# Altium integrated library ALTIUM-WE-LQS-rev16b.IntLib: 189 symbols (part 1 of 2)
Pins are listed as number, name and electrical type; pins without a type are passive.

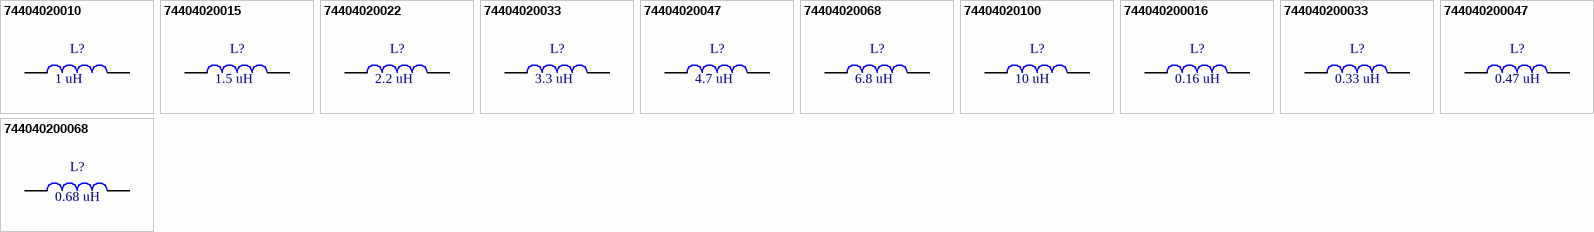
[diagram p0: symbols 74404020010 to 744040200068]

## 74404020010
designator L?  value 1 uH
WE-LQS SMD Power Inductor, size 2010, 1 uH; PartNumber: 74404020010; RatedCurrent: 1.49 A; PublishedDate: Nov. 2016; Publisher: Wurth Elektronik; ComponentLink1Description: Manufacturer; ComponentLink1URL: http://www.we-online.de; ComponentLink2Description: Datasheet; ComponentLink2URL: http://katalog.we-online.de/pbs/datasheet/74404020010.pdf; Size: 2010
footprint WE-LQS_2010
pins: 1, 2

## 74404020015
designator L?  value 1.5 uH
WE-LQS SMD Power Inductor, size 2010, 1.5 uH; PartNumber: 74404020015; RatedCurrent: 1.19 A; PublishedDate: Nov. 2016; Publisher: Wurth Elektronik; ComponentLink1Description: Manufacturer; ComponentLink1URL: http://www.we-online.de; ComponentLink2Description: Datasheet; ComponentLink2URL: http://katalog.we-online.de/pbs/datasheet/74404020015.pdf; Size: 2010
footprint WE-LQS_2010
pins: 1, 2

## 74404020022
designator L?  value 2.2 uH
WE-LQS SMD Power Inductor, size 2010, 2.2 uH; PartNumber: 74404020022; RatedCurrent: 0.96 A; PublishedDate: Nov. 2016; Publisher: Wurth Elektronik; ComponentLink1Description: Manufacturer; ComponentLink1URL: http://www.we-online.de; ComponentLink2Description: Datasheet; ComponentLink2URL: http://katalog.we-online.de/pbs/datasheet/74404020022.pdf; Size: 2010
footprint WE-LQS_2010
pins: 1, 2

## 74404020033
designator L?  value 3.3 uH
WE-LQS SMD Power Inductor, size 2010, 3.3 uH; PartNumber: 74404020033; RatedCurrent: 0.87 A; PublishedDate: Nov. 2016; Publisher: Wurth Elektronik; ComponentLink1Description: Manufacturer; ComponentLink1URL: http://www.we-online.de; ComponentLink2Description: Datasheet; ComponentLink2URL: http://katalog.we-online.de/pbs/datasheet/74404020033.pdf; Size: 2010
footprint WE-LQS_2010
pins: 1, 2

## 74404020047
designator L?  value 4.7 uH
WE-LQS SMD Power Inductor, size 2010, 4.7 uH; PartNumber: 74404020047; RatedCurrent: 0.73 A; PublishedDate: Nov. 2016; Publisher: Wurth Elektronik; ComponentLink1Description: Manufacturer; ComponentLink1URL: http://www.we-online.de; ComponentLink2Description: Datasheet; ComponentLink2URL: http://katalog.we-online.de/pbs/datasheet/74404020047.pdf; Size: 2010
footprint WE-LQS_2010
pins: 1, 2

## 74404020068
designator L?  value 6.8 uH
WE-LQS SMD Power Inductor, size 2010, 6.8 uH; PartNumber: 74404020068; RatedCurrent: 0.56 A; PublishedDate: Nov. 2016; Publisher: Wurth Elektronik; ComponentLink1Description: Manufacturer; ComponentLink1URL: http://www.we-online.de; ComponentLink2Description: Datasheet; ComponentLink2URL: http://katalog.we-online.de/pbs/datasheet/74404020068.pdf; Size: 2010
footprint WE-LQS_2010
pins: 1, 2

## 74404020100
designator L?  value 10 uH
WE-LQS SMD Power Inductor, size 2010, 10 uH; PartNumber: 74404020100; RatedCurrent: 0.5 A; PublishedDate: Nov. 2016; Publisher: Wurth Elektronik; ComponentLink1Description: Manufacturer; ComponentLink1URL: http://www.we-online.de; ComponentLink2Description: Datasheet; ComponentLink2URL: http://katalog.we-online.de/pbs/datasheet/74404020100.pdf; Size: 2010
footprint WE-LQS_2010 (SMD Power Inductor, 2-Leads, body 1.6x2.0mm)
pins: 1, 2

## 744040200016
designator L?  value 0.16 uH
WE-LQS SMD Power Inductor, size 2010, 0.16 uH; PartNumber: 744040200016; RatedCurrent: 3.07 A; PublishedDate: Nov. 2016; Publisher: Wurth Elektronik; ComponentLink1Description: Manufacturer; ComponentLink1URL: http://www.we-online.de; ComponentLink2Description: Datasheet; ComponentLink2URL: http://katalog.we-online.de/pbs/datasheet/744040200016.pdf; Size: 2010
footprint WE-LQS_2010
pins: 1, 2

## 744040200033
designator L?  value 0.33 uH
WE-LQS SMD Power Inductor, size 2010, 0.33 uH; PartNumber: 744040200033; RatedCurrent: 2.57 A; PublishedDate: Nov. 2016; Publisher: Wurth Elektronik; ComponentLink1Description: Manufacturer; ComponentLink1URL: http://www.we-online.de; ComponentLink2Description: Datasheet; ComponentLink2URL: http://katalog.we-online.de/pbs/datasheet/744040200033.pdf; Size: 2010
footprint WE-LQS_2010
pins: 1, 2

## 744040200047
designator L?  value 0.47 uH
WE-LQS SMD Power Inductor, size 2010, 0.47 uH; PartNumber: 744040200047; RatedCurrent: 2.08 A; PublishedDate: Nov. 2016; Publisher: Wurth Elektronik; ComponentLink1Description: Manufacturer; ComponentLink1URL: http://www.we-online.de; ComponentLink2Description: Datasheet; ComponentLink2URL: http://katalog.we-online.de/pbs/datasheet/744040200047.pdf; Size: 2010
footprint WE-LQS_2010
pins: 1, 2

## 744040200068
designator L?  value 0.68 uH
WE-LQS SMD Power Inductor, size 2010, 0.68 uH; PartNumber: 744040200068; RatedCurrent: 1.8 A; PublishedDate: Nov. 2016; Publisher: Wurth Elektronik; ComponentLink1Description: Manufacturer; ComponentLink1URL: http://www.we-online.de; ComponentLink2Description: Datasheet; ComponentLink2URL: http://katalog.we-online.de/pbs/datasheet/744040200068.pdf; Size: 2010
footprint WE-LQS_2010
pins: 1, 2


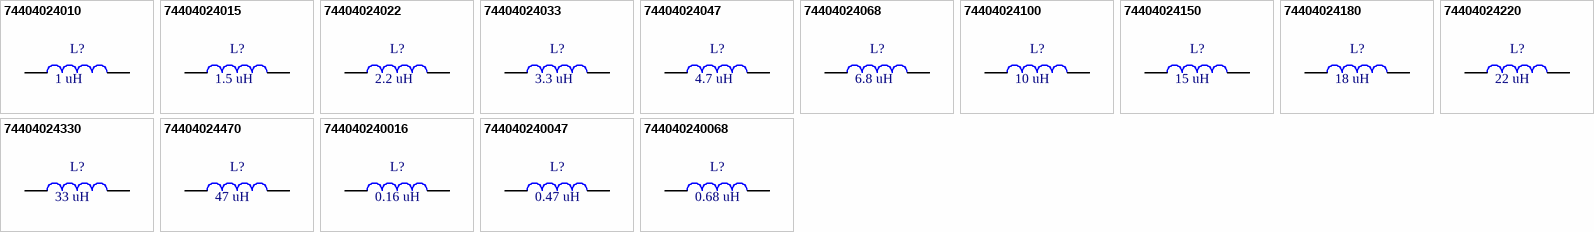
[diagram p1: symbols 74404024010 to 744040240068]

## 74404024010
designator L?  value 1 uH
WE-LQS SMD Power Inductor, size 2512, 1 uH; PartNumber: 74404024010; RatedCurrent: 2.2 A; PublishedDate: Nov. 2016; Publisher: Wurth Elektronik; ComponentLink1Description: Manufacturer; ComponentLink1URL: http://www.we-online.de; ComponentLink2Description: Datasheet; ComponentLink2URL: http://katalog.we-online.de/pbs/datasheet/74404024010.pdf; Size: 2512
footprint WE-LQS_2512
pins: 1, 2

## 74404024015
designator L?  value 1.5 uH
WE-LQS SMD Power Inductor, size 2512, 1.5 uH; PartNumber: 74404024015; RatedCurrent: 1.9 A; PublishedDate: Nov. 2016; Publisher: Wurth Elektronik; ComponentLink1Description: Manufacturer; ComponentLink1URL: http://www.we-online.de; ComponentLink2Description: Datasheet; ComponentLink2URL: http://katalog.we-online.de/pbs/datasheet/74404024015.pdf; Size: 2512
footprint WE-LQS_2512
pins: 1, 2

## 74404024022
designator L?  value 2.2 uH
WE-LQS SMD Power Inductor, size 2512, 2.2 uH; PartNumber: 74404024022; RatedCurrent: 1.8 A; PublishedDate: Nov. 2016; Publisher: Wurth Elektronik; ComponentLink1Description: Manufacturer; ComponentLink1URL: http://www.we-online.de; ComponentLink2Description: Datasheet; ComponentLink2URL: http://katalog.we-online.de/pbs/datasheet/74404024022.pdf; Size: 2512
footprint WE-LQS_2512
pins: 1, 2

## 74404024033
designator L?  value 3.3 uH
WE-LQS SMD Power Inductor, size 2512, 3.3 uH; PartNumber: 74404024033; RatedCurrent: 1.4 A; PublishedDate: Nov. 2016; Publisher: Wurth Elektronik; ComponentLink1Description: Manufacturer; ComponentLink1URL: http://www.we-online.de; ComponentLink2Description: Datasheet; ComponentLink2URL: http://katalog.we-online.de/pbs/datasheet/74404024033.pdf; Size: 2512
footprint WE-LQS_2512
pins: 1, 2

## 74404024047
designator L?  value 4.7 uH
WE-LQS SMD Power Inductor, size 2512, 4.7 uH; PartNumber: 74404024047; RatedCurrent: 1.12 A; PublishedDate: Nov. 2016; Publisher: Wurth Elektronik; ComponentLink1Description: Manufacturer; ComponentLink1URL: http://www.we-online.de; ComponentLink2Description: Datasheet; ComponentLink2URL: http://katalog.we-online.de/pbs/datasheet/74404024047.pdf; Size: 2512
footprint WE-LQS_2512
pins: 1, 2

## 74404024068
designator L?  value 6.8 uH
WE-LQS SMD Power Inductor, size 2512, 6.8 uH; PartNumber: 74404024068; RatedCurrent: 0.85 A; PublishedDate: Nov. 2016; Publisher: Wurth Elektronik; ComponentLink1Description: Manufacturer; ComponentLink1URL: http://www.we-online.de; ComponentLink2Description: Datasheet; ComponentLink2URL: http://katalog.we-online.de/pbs/datasheet/74404024068.pdf; Size: 2512
footprint WE-LQS_2512
pins: 1, 2

## 74404024100
designator L?  value 10 uH
WE-LQS SMD Power Inductor, size 2512, 10 uH; PartNumber: 74404024100; RatedCurrent: 0.65 A; PublishedDate: Nov. 2016; Publisher: Wurth Elektronik; ComponentLink1Description: Manufacturer; ComponentLink1URL: http://www.we-online.de; ComponentLink2Description: Datasheet; ComponentLink2URL: http://katalog.we-online.de/pbs/datasheet/74404024100.pdf; Size: 2512
footprint WE-LQS_2512
pins: 1, 2

## 74404024150
designator L?  value 15 uH
WE-LQS SMD Power Inductor, size 2512, 15 uH; PartNumber: 74404024150; RatedCurrent: 0.47 A; PublishedDate: Nov. 2016; Publisher: Wurth Elektronik; ComponentLink1Description: Manufacturer; ComponentLink1URL: http://www.we-online.de; ComponentLink2Description: Datasheet; ComponentLink2URL: http://katalog.we-online.de/pbs/datasheet/74404024150.pdf; Size: 2512
footprint WE-LQS_2512
pins: 1, 2

## 74404024180
designator L?  value 18 uH
WE-LQS SMD Power Inductor, size 2512, 18 uH; PartNumber: 74404024180; RatedCurrent: 0.46 A; PublishedDate: Nov. 2016; Publisher: Wurth Elektronik; ComponentLink1Description: Manufacturer; ComponentLink1URL: http://www.we-online.de; ComponentLink2Description: Datasheet; ComponentLink2URL: http://katalog.we-online.de/pbs/datasheet/74404024180.pdf; Size: 2512
footprint WE-LQS_2512
pins: 1, 2

## 74404024220
designator L?  value 22 uH
WE-LQS SMD Power Inductor, size 2512, 22 uH; PartNumber: 74404024220; RatedCurrent: 0.45 A; PublishedDate: Nov. 2016; Publisher: Wurth Elektronik; ComponentLink1Description: Manufacturer; ComponentLink1URL: http://www.we-online.de; ComponentLink2Description: Datasheet; ComponentLink2URL: http://katalog.we-online.de/pbs/datasheet/74404024220.pdf; Size: 2512
footprint WE-LQS_2512
pins: 1, 2

## 74404024330
designator L?  value 33 uH
WE-LQS SMD Power Inductor, size 2512, 33 uH; PartNumber: 74404024330; RatedCurrent: 0.44 A; PublishedDate: Nov. 2016; Publisher: Wurth Elektronik; ComponentLink1Description: Manufacturer; ComponentLink1URL: http://www.we-online.de; ComponentLink2Description: Datasheet; ComponentLink2URL: http://katalog.we-online.de/pbs/datasheet/74404024330.pdf; Size: 2512
footprint WE-LQS_2512
pins: 1, 2

## 74404024470
designator L?  value 47 uH
WE-LQS SMD Power Inductor, size 2512, 47 uH; PartNumber: 74404024470; RatedCurrent: 0.33 A; PublishedDate: Nov. 2016; Publisher: Wurth Elektronik; ComponentLink1Description: Manufacturer; ComponentLink1URL: http://www.we-online.de; ComponentLink2Description: Datasheet; ComponentLink2URL: http://katalog.we-online.de/pbs/datasheet/74404024470.pdf; Size: 2512
footprint WE-LQS_2512
pins: 1, 2

## 744040240016
designator L?  value 0.16 uH
WE-LQS SMD Power Inductor, size 2512, 0.16 uH; PartNumber: 744040240016; RatedCurrent: 3.7 A; PublishedDate: Nov. 2016; Publisher: Wurth Elektronik; ComponentLink1Description: Manufacturer; ComponentLink1URL: http://www.we-online.de; ComponentLink2Description: Datasheet; ComponentLink2URL: http://katalog.we-online.de/pbs/datasheet/744040240016.pdf; Size: 2512
footprint WE-LQS_2512
pins: 1, 2

## 744040240047
designator L?  value 0.47 uH
WE-LQS SMD Power Inductor, size 2512, 0.47 uH; PartNumber: 744040240047; RatedCurrent: 2.6 A; PublishedDate: Nov. 2016; Publisher: Wurth Elektronik; ComponentLink1Description: Manufacturer; ComponentLink1URL: http://www.we-online.de; ComponentLink2Description: Datasheet; ComponentLink2URL: http://katalog.we-online.de/pbs/datasheet/744040240047.pdf; Size: 2512
footprint WE-LQS_2512
pins: 1, 2

## 744040240068
designator L?  value 0.68 uH
WE-LQS SMD Power Inductor, size 2512, 0.68 uH; PartNumber: 744040240068; RatedCurrent: 2.5 A; PublishedDate: Nov. 2016; Publisher: Wurth Elektronik; ComponentLink1Description: Manufacturer; ComponentLink1URL: http://www.we-online.de; ComponentLink2Description: Datasheet; ComponentLink2URL: http://katalog.we-online.de/pbs/datasheet/744040240068.pdf; Size: 2512
footprint WE-LQS_2512
pins: 1, 2


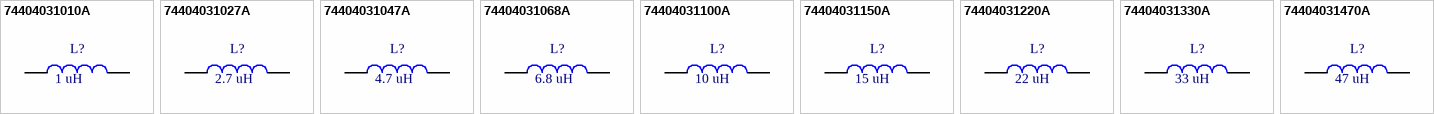
[diagram p2: symbols 74404031010A to 74404031470A]

## 74404031010A
designator L?  value 1 uH
WE-LQS SMD Power Inductor, size 3012, 1 uH; PartNumber: 74404031010A; RatedCurrent: 2.94 A; PublishedDate: Nov. 2016; Publisher: Wurth Elektronik; ComponentLink1Description: Manufacturer; ComponentLink1URL: http://www.we-online.de; ComponentLink2Description: Datasheet; ComponentLink2URL: http://katalog.we-online.de/pbs/datasheet/74404031010A.pdf; Size: 3012
footprint WE-LQS_3012
pins: 1, 2

## 74404031027A
designator L?  value 2.7 uH
WE-LQS SMD Power Inductor, size 3012, 2.7 uH; PartNumber: 74404031027A; RatedCurrent: 1.85 A; PublishedDate: Nov. 2016; Publisher: Wurth Elektronik; ComponentLink1Description: Manufacturer; ComponentLink1URL: http://www.we-online.de; ComponentLink2Description: Datasheet; ComponentLink2URL: http://katalog.we-online.de/pbs/datasheet/74404031027A.pdf; Size: 3012
footprint WE-LQS_3012
pins: 1, 2

## 74404031047A
designator L?  value 4.7 uH
WE-LQS SMD Power Inductor, size 3012, 4.7 uH; PartNumber: 74404031047A; RatedCurrent: 1.4 A; PublishedDate: Nov. 2016; Publisher: Wurth Elektronik; ComponentLink1Description: Manufacturer; ComponentLink1URL: http://www.we-online.de; ComponentLink2Description: Datasheet; ComponentLink2URL: http://katalog.we-online.de/pbs/datasheet/74404031047A.pdf; Size: 3012
footprint WE-LQS_3012
pins: 1, 2

## 74404031068A
designator L?  value 6.8 uH
WE-LQS SMD Power Inductor, size 3012, 6.8 uH; PartNumber: 74404031068A; RatedCurrent: 1.29 A; PublishedDate: Nov. 2016; Publisher: Wurth Elektronik; ComponentLink1Description: Manufacturer; ComponentLink1URL: http://www.we-online.de; ComponentLink2Description: Datasheet; ComponentLink2URL: http://katalog.we-online.de/pbs/datasheet/74404031068A.pdf; Size: 3012
footprint WE-LQS_3012
pins: 1, 2

## 74404031100A
designator L?  value 10 uH
WE-LQS SMD Power Inductor, size 3012, 10 uH; PartNumber: 74404031100A; RatedCurrent: 1.03 A; PublishedDate: Nov. 2016; Publisher: Wurth Elektronik; ComponentLink1Description: Manufacturer; ComponentLink1URL: http://www.we-online.de; ComponentLink2Description: Datasheet; ComponentLink2URL: http://katalog.we-online.de/pbs/datasheet/74404031100A.pdf; Size: 3012
footprint WE-LQS_3012
pins: 1, 2

## 74404031150A
designator L?  value 15 uH
WE-LQS SMD Power Inductor, size 3012, 15 uH; PartNumber: 74404031150A; RatedCurrent: 0.81 A; PublishedDate: Nov. 2016; Publisher: Wurth Elektronik; ComponentLink1Description: Manufacturer; ComponentLink1URL: http://www.we-online.de; ComponentLink2Description: Datasheet; ComponentLink2URL: http://katalog.we-online.de/pbs/datasheet/74404031150A.pdf; Size: 3012
footprint WE-LQS_3012
pins: 1, 2

## 74404031220A
designator L?  value 22 uH
WE-LQS SMD Power Inductor, size 3012, 22 uH; PartNumber: 74404031220A; RatedCurrent: 0.74 A; PublishedDate: Nov. 2016; Publisher: Wurth Elektronik; ComponentLink1Description: Manufacturer; ComponentLink1URL: http://www.we-online.de; ComponentLink2Description: Datasheet; ComponentLink2URL: http://katalog.we-online.de/pbs/datasheet/74404031220A.pdf; Size: 3012
footprint WE-LQS_3012
pins: 1, 2

## 74404031330A
designator L?  value 33 uH
WE-LQS SMD Power Inductor, size 3012, 33 uH; PartNumber: 74404031330A; RatedCurrent: 0.6 A; PublishedDate: Nov. 2016; Publisher: Wurth Elektronik; ComponentLink1Description: Manufacturer; ComponentLink1URL: http://www.we-online.de; ComponentLink2Description: Datasheet; ComponentLink2URL: http://katalog.we-online.de/pbs/datasheet/74404031330A.pdf; Size: 3012
footprint WE-LQS_3012
pins: 1, 2

## 74404031470A
designator L?  value 47 uH
WE-LQS SMD Power Inductor, size 3012, 47 uH; PartNumber: 74404031470A; RatedCurrent: 0.48 A; PublishedDate: Nov. 2016; Publisher: Wurth Elektronik; ComponentLink1Description: Manufacturer; ComponentLink1URL: http://www.we-online.de; ComponentLink2Description: Datasheet; ComponentLink2URL: http://katalog.we-online.de/pbs/datasheet/74404031470A.pdf; Size: 3012
footprint WE-LQS_3012
pins: 1, 2


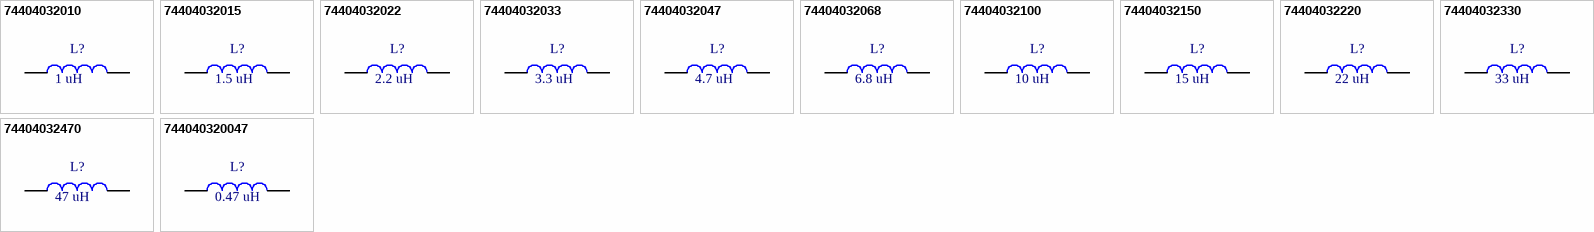
[diagram p3: symbols 74404032010 to 744040320047]

## 74404032010
designator L?  value 1 uH
WE-LQS SMD Power Inductor, size 3015, 1 uH; PartNumber: 74404032010; RatedCurrent: 2.2 A; PublishedDate: Nov. 2016; Publisher: Wurth Elektronik; ComponentLink1Description: Manufacturer; ComponentLink1URL: http://www.we-online.de; ComponentLink2Description: Datasheet; ComponentLink2URL: http://katalog.we-online.de/pbs/datasheet/74404032010.pdf; Size: 3015
footprint WE-LQS_3015
pins: 1, 2

## 74404032015
designator L?  value 1.5 uH
WE-LQS SMD Power Inductor, size 3015, 1.5 uH; PartNumber: 74404032015; RatedCurrent: 2 A; PublishedDate: Nov. 2016; Publisher: Wurth Elektronik; ComponentLink1Description: Manufacturer; ComponentLink1URL: http://www.we-online.de; ComponentLink2Description: Datasheet; ComponentLink2URL: http://katalog.we-online.de/pbs/datasheet/74404032015.pdf; Size: 3015
footprint WE-LQS_3015
pins: 1, 2

## 74404032022
designator L?  value 2.2 uH
WE-LQS SMD Power Inductor, size 3015, 2.2 uH; PartNumber: 74404032022; RatedCurrent: 1.8 A; PublishedDate: Nov. 2016; Publisher: Wurth Elektronik; ComponentLink1Description: Manufacturer; ComponentLink1URL: http://www.we-online.de; ComponentLink2Description: Datasheet; ComponentLink2URL: http://katalog.we-online.de/pbs/datasheet/74404032022.pdf; Size: 3015
footprint WE-LQS_3015
pins: 1, 2

## 74404032033
designator L?  value 3.3 uH
WE-LQS SMD Power Inductor, size 3015, 3.3 uH; PartNumber: 74404032033; RatedCurrent: 1.5 A; PublishedDate: Nov. 2016; Publisher: Wurth Elektronik; ComponentLink1Description: Manufacturer; ComponentLink1URL: http://www.we-online.de; ComponentLink2Description: Datasheet; ComponentLink2URL: http://katalog.we-online.de/pbs/datasheet/74404032033.pdf; Size: 3015
footprint WE-LQS_3015
pins: 1, 2

## 74404032047
designator L?  value 4.7 uH
WE-LQS SMD Power Inductor, size 3015, 4.7 uH; PartNumber: 74404032047; RatedCurrent: 1.3 A; PublishedDate: Nov. 2016; Publisher: Wurth Elektronik; ComponentLink1Description: Manufacturer; ComponentLink1URL: http://www.we-online.de; ComponentLink2Description: Datasheet; ComponentLink2URL: http://katalog.we-online.de/pbs/datasheet/74404032047.pdf; Size: 3015
footprint WE-LQS_3015
pins: 1, 2

## 74404032068
designator L?  value 6.8 uH
WE-LQS SMD Power Inductor, size 3015, 6.8 uH; PartNumber: 74404032068; RatedCurrent: 1.16 A; PublishedDate: Nov. 2016; Publisher: Wurth Elektronik; ComponentLink1Description: Manufacturer; ComponentLink1URL: http://www.we-online.de; ComponentLink2Description: Datasheet; ComponentLink2URL: http://katalog.we-online.de/pbs/datasheet/74404032068.pdf; Size: 3015
footprint WE-LQS_3015
pins: 1, 2

## 74404032100
designator L?  value 10 uH
WE-LQS SMD Power Inductor, size 3015, 10 uH; PartNumber: 74404032100; RatedCurrent: 0.84 A; PublishedDate: Nov. 2016; Publisher: Wurth Elektronik; ComponentLink1Description: Manufacturer; ComponentLink1URL: http://www.we-online.de; ComponentLink2Description: Datasheet; ComponentLink2URL: http://katalog.we-online.de/pbs/datasheet/74404032100.pdf; Size: 3015
footprint WE-LQS_3015
pins: 1, 2

## 74404032150
designator L?  value 15 uH
WE-LQS SMD Power Inductor, size 3015, 15 uH; PartNumber: 74404032150; RatedCurrent: 0.73 A; PublishedDate: Nov. 2016; Publisher: Wurth Elektronik; ComponentLink1Description: Manufacturer; ComponentLink1URL: http://www.we-online.de; ComponentLink2Description: Datasheet; ComponentLink2URL: http://katalog.we-online.de/pbs/datasheet/74404032150.pdf; Size: 3015
footprint WE-LQS_3015
pins: 1, 2

## 74404032220
designator L?  value 22 uH
WE-LQS SMD Power Inductor, size 3015, 22 uH; PartNumber: 74404032220; RatedCurrent: 0.6 A; PublishedDate: Nov. 2016; Publisher: Wurth Elektronik; ComponentLink1Description: Manufacturer; ComponentLink1URL: http://www.we-online.de; ComponentLink2Description: Datasheet; ComponentLink2URL: http://katalog.we-online.de/pbs/datasheet/74404032220.pdf; Size: 3015
footprint WE-LQS_3015
pins: 1, 2

## 74404032330
designator L?  value 33 uH
WE-LQS SMD Power Inductor, size 3015, 33 uH; PartNumber: 74404032330; RatedCurrent: 0.5 A; PublishedDate: Nov. 2016; Publisher: Wurth Elektronik; ComponentLink1Description: Manufacturer; ComponentLink1URL: http://www.we-online.de; ComponentLink2Description: Datasheet; ComponentLink2URL: http://katalog.we-online.de/pbs/datasheet/74404032330.pdf; Size: 3015
footprint WE-LQS_3015
pins: 1, 2

## 74404032470
designator L?  value 47 uH
WE-LQS SMD Power Inductor, size 3015, 47 uH; PartNumber: 74404032470; RatedCurrent: 0.4 A; PublishedDate: Nov. 2016; Publisher: Wurth Elektronik; ComponentLink1Description: Manufacturer; ComponentLink1URL: http://www.we-online.de; ComponentLink2Description: Datasheet; ComponentLink2URL: http://katalog.we-online.de/pbs/datasheet/74404032470.pdf; Size: 3015
footprint WE-LQS_3015 (SMD Power Inductor, 2-Leads, body 3.0x3.0mm)
pins: 1, 2

## 744040320047
designator L?  value 0.47 uH
WE-LQS SMD Power Inductor, size 3015, 0.47 uH; PartNumber: 744040320047; RatedCurrent: 3 A; PublishedDate: Nov. 2016; Publisher: Wurth Elektronik; ComponentLink1Description: Manufacturer; ComponentLink1URL: http://www.we-online.de; ComponentLink2Description: Datasheet; ComponentLink2URL: http://katalog.we-online.de/pbs/datasheet/744040320047.pdf; Size: 3015
footprint WE-LQS_3015
pins: 1, 2


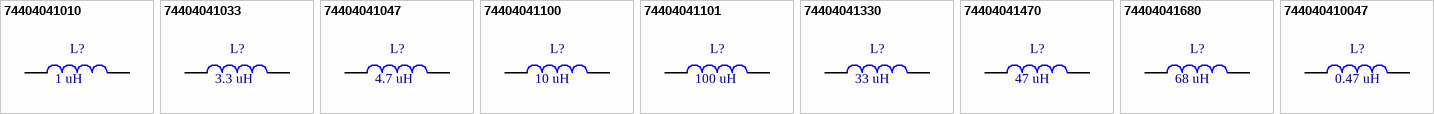
[diagram p4: symbols 74404041010 to 744040410047]

## 74404041010
designator L?  value 1 uH
WE-LQS SMD Power Inductor, size 4012, 1 uH; PartNumber: 74404041010; RatedCurrent: 2.52 A; PublishedDate: Nov. 2016; Publisher: Wurth Elektronik; ComponentLink1Description: Manufacturer; ComponentLink1URL: http://www.we-online.de; ComponentLink2Description: Datasheet; ComponentLink2URL: http://katalog.we-online.de/pbs/datasheet/74404041010.pdf; Size: 4012
footprint WE-LQS_4012
pins: 1, 2

## 74404041033
designator L?  value 3.3 uH
WE-LQS SMD Power Inductor, size 4012, 3.3 uH; PartNumber: 74404041033; RatedCurrent: 1.75 A; PublishedDate: Nov. 2016; Publisher: Wurth Elektronik; ComponentLink1Description: Manufacturer; ComponentLink1URL: http://www.we-online.de; ComponentLink2Description: Datasheet; ComponentLink2URL: http://katalog.we-online.de/pbs/datasheet/74404041033.pdf; Size: 4012
footprint WE-LQS_4012
pins: 1, 2

## 74404041047
designator L?  value 4.7 uH
WE-LQS SMD Power Inductor, size 4012, 4.7 uH; PartNumber: 74404041047; RatedCurrent: 1.55 A; PublishedDate: Nov. 2016; Publisher: Wurth Elektronik; ComponentLink1Description: Manufacturer; ComponentLink1URL: http://www.we-online.de; ComponentLink2Description: Datasheet; ComponentLink2URL: http://katalog.we-online.de/pbs/datasheet/74404041047.pdf; Size: 4012
footprint WE-LQS_4012
pins: 1, 2

## 74404041100
designator L?  value 10 uH
WE-LQS SMD Power Inductor, size 4012, 10 uH; PartNumber: 74404041100; RatedCurrent: 1.32 A; PublishedDate: Nov. 2016; Publisher: Wurth Elektronik; ComponentLink1Description: Manufacturer; ComponentLink1URL: http://www.we-online.de; ComponentLink2Description: Datasheet; ComponentLink2URL: http://katalog.we-online.de/pbs/datasheet/74404041100.pdf; Size: 4012
footprint WE-LQS_4012
pins: 1, 2

## 74404041101
designator L?  value 100 uH
WE-LQS SMD Power Inductor, size 4012, 100 uH; PartNumber: 74404041101; RatedCurrent: 0.43 A; PublishedDate: Nov. 2016; Publisher: Wurth Elektronik; ComponentLink1Description: Manufacturer; ComponentLink1URL: http://www.we-online.de; ComponentLink2Description: Datasheet; ComponentLink2URL: http://katalog.we-online.de/pbs/datasheet/74404041101.pdf; Size: 4012
footprint WE-LQS_4012
pins: 1, 2

## 74404041330
designator L?  value 33 uH
WE-LQS SMD Power Inductor, size 4012, 33 uH; PartNumber: 74404041330; RatedCurrent: 0.65 A; PublishedDate: Nov. 2016; Publisher: Wurth Elektronik; ComponentLink1Description: Manufacturer; ComponentLink1URL: http://www.we-online.de; ComponentLink2Description: Datasheet; ComponentLink2URL: http://katalog.we-online.de/pbs/datasheet/74404041330.pdf; Size: 4012
footprint WE-LQS_4012
pins: 1, 2

## 74404041470
designator L?  value 47 uH
WE-LQS SMD Power Inductor, size 4012, 47 uH; PartNumber: 74404041470; RatedCurrent: 0.56 A; PublishedDate: Nov. 2016; Publisher: Wurth Elektronik; ComponentLink1Description: Manufacturer; ComponentLink1URL: http://www.we-online.de; ComponentLink2Description: Datasheet; ComponentLink2URL: http://katalog.we-online.de/pbs/datasheet/74404041470.pdf; Size: 4012
footprint WE-LQS_4012
pins: 1, 2

## 74404041680
designator L?  value 68 uH
WE-LQS SMD Power Inductor, size 4012, 68 uH; PartNumber: 74404041680; RatedCurrent: 0.45 A; PublishedDate: Nov. 2016; Publisher: Wurth Elektronik; ComponentLink1Description: Manufacturer; ComponentLink1URL: http://www.we-online.de; ComponentLink2Description: Datasheet; ComponentLink2URL: http://katalog.we-online.de/pbs/datasheet/74404041680.pdf; Size: 4012
footprint WE-LQS_4012 (SMD Power Inductor, 2-Leads, body 4.0x4.0mm)
pins: 1, 2

## 744040410047
designator L?  value 0.47 uH
WE-LQS SMD Power Inductor, size 4012, 0.47 uH; PartNumber: 744040410047; RatedCurrent: 3.25 A; PublishedDate: Nov. 2016; Publisher: Wurth Elektronik; ComponentLink1Description: Manufacturer; ComponentLink1URL: http://www.we-online.de; ComponentLink2Description: Datasheet; ComponentLink2URL: http://katalog.we-online.de/pbs/datasheet/744040410047.pdf; Size: 4012
footprint WE-LQS_4012
pins: 1, 2


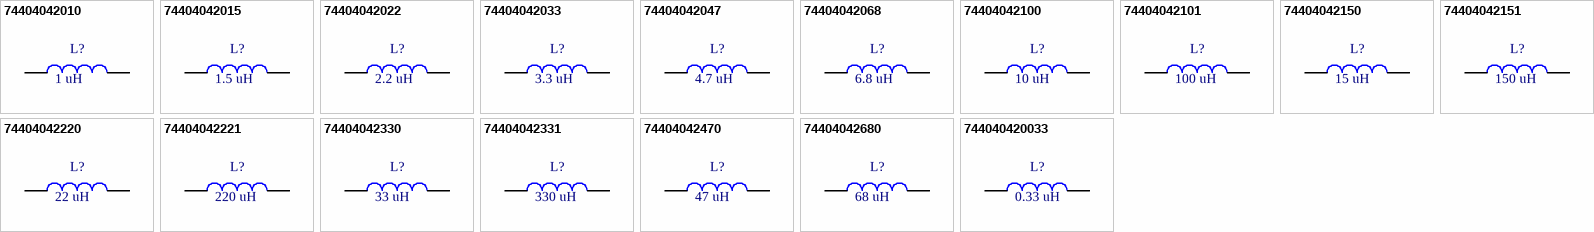
[diagram p5: symbols 74404042010 to 744040420033]

## 74404042010
designator L?  value 1 uH
WE-LQS SMD Power Inductor, size 4018, 1 uH; PartNumber: 74404042010; RatedCurrent: 3.2 A; PublishedDate: Nov. 2016; Publisher: Wurth Elektronik; ComponentLink1Description: Manufacturer; ComponentLink1URL: http://www.we-online.de; ComponentLink2Description: Datasheet; ComponentLink2URL: http://katalog.we-online.de/pbs/datasheet/74404042010.pdf; Size: 4018
footprint WE-LQS_4018
pins: 1, 2

## 74404042015
designator L?  value 1.5 uH
WE-LQS SMD Power Inductor, size 4018, 1.5 uH; PartNumber: 74404042015; RatedCurrent: 2.95 A; PublishedDate: Nov. 2016; Publisher: Wurth Elektronik; ComponentLink1Description: Manufacturer; ComponentLink1URL: http://www.we-online.de; ComponentLink2Description: Datasheet; ComponentLink2URL: http://katalog.we-online.de/pbs/datasheet/74404042015.pdf; Size: 4018
footprint WE-LQS_4018
pins: 1, 2

## 74404042022
designator L?  value 2.2 uH
WE-LQS SMD Power Inductor, size 4018, 2.2 uH; PartNumber: 74404042022; RatedCurrent: 2.2 A; PublishedDate: Nov. 2016; Publisher: Wurth Elektronik; ComponentLink1Description: Manufacturer; ComponentLink1URL: http://www.we-online.de; ComponentLink2Description: Datasheet; ComponentLink2URL: http://katalog.we-online.de/pbs/datasheet/74404042022.pdf; Size: 4018
footprint WE-LQS_4018
pins: 1, 2

## 74404042033
designator L?  value 3.3 uH
WE-LQS SMD Power Inductor, size 4018, 3.3 uH; PartNumber: 74404042033; RatedCurrent: 2 A; PublishedDate: Nov. 2016; Publisher: Wurth Elektronik; ComponentLink1Description: Manufacturer; ComponentLink1URL: http://www.we-online.de; ComponentLink2Description: Datasheet; ComponentLink2URL: http://katalog.we-online.de/pbs/datasheet/74404042033.pdf; Size: 4018
footprint WE-LQS_4018
pins: 1, 2

## 74404042047
designator L?  value 4.7 uH
WE-LQS SMD Power Inductor, size 4018, 4.7 uH; PartNumber: 74404042047; RatedCurrent: 1.7 A; PublishedDate: Nov. 2016; Publisher: Wurth Elektronik; ComponentLink1Description: Manufacturer; ComponentLink1URL: http://www.we-online.de; ComponentLink2Description: Datasheet; ComponentLink2URL: http://katalog.we-online.de/pbs/datasheet/74404042047.pdf; Size: 4018
footprint WE-LQS_4018
pins: 1, 2

## 74404042068
designator L?  value 6.8 uH
WE-LQS SMD Power Inductor, size 4018, 6.8 uH; PartNumber: 74404042068; RatedCurrent: 1.45 A; PublishedDate: Nov. 2016; Publisher: Wurth Elektronik; ComponentLink1Description: Manufacturer; ComponentLink1URL: http://www.we-online.de; ComponentLink2Description: Datasheet; ComponentLink2URL: http://katalog.we-online.de/pbs/datasheet/74404042068.pdf; Size: 4018
footprint WE-LQS_4018
pins: 1, 2

## 74404042100
designator L?  value 10 uH
WE-LQS SMD Power Inductor, size 4018, 10 uH; PartNumber: 74404042100; RatedCurrent: 1.2 A; PublishedDate: Nov. 2016; Publisher: Wurth Elektronik; ComponentLink1Description: Manufacturer; ComponentLink1URL: http://www.we-online.de; ComponentLink2Description: Datasheet; ComponentLink2URL: http://katalog.we-online.de/pbs/datasheet/74404042100.pdf; Size: 4018
footprint WE-LQS_4018
pins: 1, 2

## 74404042101
designator L?  value 100 uH
WE-LQS SMD Power Inductor, size 4018, 100 uH; PartNumber: 74404042101; RatedCurrent: 0.42 A; PublishedDate: Nov. 2016; Publisher: Wurth Elektronik; ComponentLink1Description: Manufacturer; ComponentLink1URL: http://www.we-online.de; ComponentLink2Description: Datasheet; ComponentLink2URL: http://katalog.we-online.de/pbs/datasheet/74404042101.pdf; Size: 4018
footprint WE-LQS_4018
pins: 1, 2

## 74404042150
designator L?  value 15 uH
WE-LQS SMD Power Inductor, size 4018, 15 uH; PartNumber: 74404042150; RatedCurrent: 0.85 A; PublishedDate: Nov. 2016; Publisher: Wurth Elektronik; ComponentLink1Description: Manufacturer; ComponentLink1URL: http://www.we-online.de; ComponentLink2Description: Datasheet; ComponentLink2URL: http://katalog.we-online.de/pbs/datasheet/74404042150.pdf; Size: 4018
footprint WE-LQS_4018
pins: 1, 2

## 74404042151
designator L?  value 150 uH
WE-LQS SMD Power Inductor, size 4018, 150 uH; PartNumber: 74404042151; RatedCurrent: 0.3 A; PublishedDate: Nov. 2016; Publisher: Wurth Elektronik; ComponentLink1Description: Manufacturer; ComponentLink1URL: http://www.we-online.de; ComponentLink2Description: Datasheet; ComponentLink2URL: http://katalog.we-online.de/pbs/datasheet/74404042151.pdf; Size: 4018
footprint WE-LQS_4018
pins: 1, 2

## 74404042220
designator L?  value 22 uH
WE-LQS SMD Power Inductor, size 4018, 22 uH; PartNumber: 74404042220; RatedCurrent: 0.7 A; PublishedDate: Nov. 2016; Publisher: Wurth Elektronik; ComponentLink1Description: Manufacturer; ComponentLink1URL: http://www.we-online.de; ComponentLink2Description: Datasheet; ComponentLink2URL: http://katalog.we-online.de/pbs/datasheet/74404042220.pdf; Size: 4018
footprint WE-LQS_4018
pins: 1, 2

## 74404042221
designator L?  value 220 uH
WE-LQS SMD Power Inductor, size 4018, 220 uH; PartNumber: 74404042221; RatedCurrent: 0.25 A; PublishedDate: Nov. 2016; Publisher: Wurth Elektronik; ComponentLink1Description: Manufacturer; ComponentLink1URL: http://www.we-online.de; ComponentLink2Description: Datasheet; ComponentLink2URL: http://katalog.we-online.de/pbs/datasheet/74404042221.pdf; Size: 4018
footprint WE-LQS_4018
pins: 1, 2

## 74404042330
designator L?  value 33 uH
WE-LQS SMD Power Inductor, size 4018, 33 uH; PartNumber: 74404042330; RatedCurrent: 0.65 A; PublishedDate: Nov. 2016; Publisher: Wurth Elektronik; ComponentLink1Description: Manufacturer; ComponentLink1URL: http://www.we-online.de; ComponentLink2Description: Datasheet; ComponentLink2URL: http://katalog.we-online.de/pbs/datasheet/74404042330.pdf; Size: 4018
footprint WE-LQS_4018
pins: 1, 2

## 74404042331
designator L?  value 330 uH
WE-LQS SMD Power Inductor, size 4018, 330 uH; PartNumber: 74404042331; RatedCurrent: 0.2 A; PublishedDate: Nov. 2016; Publisher: Wurth Elektronik; ComponentLink1Description: Manufacturer; ComponentLink1URL: http://www.we-online.de; ComponentLink2Description: Datasheet; ComponentLink2URL: http://katalog.we-online.de/pbs/datasheet/74404042331.pdf; Size: 4018
footprint WE-LQS_4018
pins: 1, 2

## 74404042470
designator L?  value 47 uH
WE-LQS SMD Power Inductor, size 4018, 47 uH; PartNumber: 74404042470; RatedCurrent: 0.6 A; PublishedDate: Nov. 2016; Publisher: Wurth Elektronik; ComponentLink1Description: Manufacturer; ComponentLink1URL: http://www.we-online.de; ComponentLink2Description: Datasheet; ComponentLink2URL: http://katalog.we-online.de/pbs/datasheet/74404042470.pdf; Size: 4018
footprint WE-LQS_4018
pins: 1, 2

## 74404042680
designator L?  value 68 uH
WE-LQS SMD Power Inductor, size 4018, 68 uH; PartNumber: 74404042680; RatedCurrent: 0.54 A; PublishedDate: Nov. 2016; Publisher: Wurth Elektronik; ComponentLink1Description: Manufacturer; ComponentLink1URL: http://www.we-online.de; ComponentLink2Description: Datasheet; ComponentLink2URL: http://katalog.we-online.de/pbs/datasheet/74404042680.pdf; Size: 4018
footprint WE-LQS_4018 (SMD Power Inductor, 2-Leads, body 4.0x4.0mm)
pins: 1, 2

## 744040420033
designator L?  value 0.33 uH
WE-LQS SMD Power Inductor, size 4018, 0.33 uH; PartNumber: 744040420033; RatedCurrent: 4.5 A; PublishedDate: Nov. 2016; Publisher: Wurth Elektronik; ComponentLink1Description: Manufacturer; ComponentLink1URL: http://www.we-online.de; ComponentLink2Description: Datasheet; ComponentLink2URL: http://katalog.we-online.de/pbs/datasheet/744040420033.pdf; Size: 4018
footprint WE-LQS_4018
pins: 1, 2


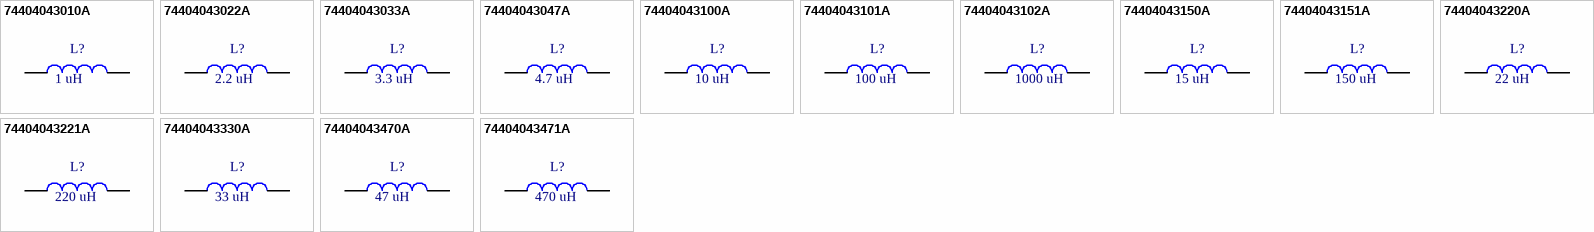
[diagram p6: symbols 74404043010A to 74404043471A]

## 74404043010A
designator L?  value 1 uH
WE-LQS SMD Power Inductor, size 4025, 1 uH; PartNumber: 74404043010A; RatedCurrent: 4.9 A; PublishedDate: Nov. 2016; Publisher: Wurth Elektronik; ComponentLink1Description: Manufacturer; ComponentLink1URL: http://www.we-online.de; ComponentLink2Description: Datasheet; ComponentLink2URL: http://katalog.we-online.de/pbs/datasheet/74404043010A.pdf; Size: 4025
footprint WE-LQS_4025
pins: 1, 2

## 74404043022A
designator L?  value 2.2 uH
WE-LQS SMD Power Inductor, size 4025, 2.2 uH; PartNumber: 74404043022A; RatedCurrent: 3.83 A; PublishedDate: Nov. 2016; Publisher: Wurth Elektronik; ComponentLink1Description: Manufacturer; ComponentLink1URL: http://www.we-online.de; ComponentLink2Description: Datasheet; ComponentLink2URL: http://katalog.we-online.de/pbs/datasheet/74404043022A.pdf; Size: 4025
footprint WE-LQS_4025
pins: 1, 2

## 74404043033A
designator L?  value 3.3 uH
WE-LQS SMD Power Inductor, size 4025, 3.3 uH; PartNumber: 74404043033A; RatedCurrent: 3.23 A; PublishedDate: Nov. 2016; Publisher: Wurth Elektronik; ComponentLink1Description: Manufacturer; ComponentLink1URL: http://www.we-online.de; ComponentLink2Description: Datasheet; ComponentLink2URL: http://katalog.we-online.de/pbs/datasheet/74404043033A.pdf; Size: 4025
footprint WE-LQS_4025
pins: 1, 2

## 74404043047A
designator L?  value 4.7 uH
WE-LQS SMD Power Inductor, size 4025, 4.7 uH; PartNumber: 74404043047A; RatedCurrent: 2.3 A; PublishedDate: Nov. 2016; Publisher: Wurth Elektronik; ComponentLink1Description: Manufacturer; ComponentLink1URL: http://www.we-online.de; ComponentLink2Description: Datasheet; ComponentLink2URL: http://katalog.we-online.de/pbs/datasheet/74404043047A.pdf; Size: 4025
footprint WE-LQS_4025
pins: 1, 2

## 74404043100A
designator L?  value 10 uH
WE-LQS SMD Power Inductor, size 4025, 10 uH; PartNumber: 74404043100A; RatedCurrent: 1.76 A; PublishedDate: Nov. 2016; Publisher: Wurth Elektronik; ComponentLink1Description: Manufacturer; ComponentLink1URL: http://www.we-online.de; ComponentLink2Description: Datasheet; ComponentLink2URL: http://katalog.we-online.de/pbs/datasheet/74404043100A.pdf; Size: 4025
footprint WE-LQS_4025
pins: 1, 2

## 74404043101A
designator L?  value 100 uH
WE-LQS SMD Power Inductor, size 4025, 100 uH; PartNumber: 74404043101A; RatedCurrent: 0.49 A; PublishedDate: Nov. 2016; Publisher: Wurth Elektronik; ComponentLink1Description: Manufacturer; ComponentLink1URL: http://www.we-online.de; ComponentLink2Description: Datasheet; ComponentLink2URL: http://katalog.we-online.de/pbs/datasheet/74404043101A.pdf; Size: 4025
footprint WE-LQS_4025
pins: 1, 2

## 74404043102A
designator L?  value 1000 uH
WE-LQS SMD Power Inductor, size 4025, 1000 uH; PartNumber: 74404043102A; RatedCurrent: 0.16 A; PublishedDate: Nov. 2016; Publisher: Wurth Elektronik; ComponentLink1Description: Manufacturer; ComponentLink1URL: http://www.we-online.de; ComponentLink2Description: Datasheet; ComponentLink2URL: http://katalog.we-online.de/pbs/datasheet/74404043102A.pdf; Size: 4025
footprint WE-LQS_4025
pins: 1, 2

## 74404043150A
designator L?  value 15 uH
WE-LQS SMD Power Inductor, size 4025, 15 uH; PartNumber: 74404043150A; RatedCurrent: 1.45 A; PublishedDate: Nov. 2016; Publisher: Wurth Elektronik; ComponentLink1Description: Manufacturer; ComponentLink1URL: http://www.we-online.de; ComponentLink2Description: Datasheet; ComponentLink2URL: http://katalog.we-online.de/pbs/datasheet/74404043150A.pdf; Size: 4025
footprint WE-LQS_4025
pins: 1, 2

## 74404043151A
designator L?  value 150 uH
WE-LQS SMD Power Inductor, size 4025, 150 uH; PartNumber: 74404043151A; RatedCurrent: 0.39 A; PublishedDate: Nov. 2016; Publisher: Wurth Elektronik; ComponentLink1Description: Manufacturer; ComponentLink1URL: http://www.we-online.de; ComponentLink2Description: Datasheet; ComponentLink2URL: http://katalog.we-online.de/pbs/datasheet/74404043151A.pdf; Size: 4025
footprint WE-LQS_4025
pins: 1, 2

## 74404043220A
designator L?  value 22 uH
WE-LQS SMD Power Inductor, size 4025, 22 uH; PartNumber: 74404043220A; RatedCurrent: 1.11 A; PublishedDate: Nov. 2016; Publisher: Wurth Elektronik; ComponentLink1Description: Manufacturer; ComponentLink1URL: http://www.we-online.de; ComponentLink2Description: Datasheet; ComponentLink2URL: http://katalog.we-online.de/pbs/datasheet/74404043220A.pdf; Size: 4025
footprint WE-LQS_4025
pins: 1, 2

## 74404043221A
designator L?  value 220 uH
WE-LQS SMD Power Inductor, size 4025, 220 uH; PartNumber: 74404043221A; RatedCurrent: 0.31 A; PublishedDate: Nov. 2016; Publisher: Wurth Elektronik; ComponentLink1Description: Manufacturer; ComponentLink1URL: http://www.we-online.de; ComponentLink2Description: Datasheet; ComponentLink2URL: http://katalog.we-online.de/pbs/datasheet/74404043221A.pdf; Size: 4025
footprint WE-LQS_4025
pins: 1, 2

## 74404043330A
designator L?  value 33 uH
WE-LQS SMD Power Inductor, size 4025, 33 uH; PartNumber: 74404043330A; RatedCurrent: 0.88 A; PublishedDate: Nov. 2016; Publisher: Wurth Elektronik; ComponentLink1Description: Manufacturer; ComponentLink1URL: http://www.we-online.de; ComponentLink2Description: Datasheet; ComponentLink2URL: http://katalog.we-online.de/pbs/datasheet/74404043330A.pdf; Size: 4025
footprint WE-LQS_4025
pins: 1, 2

## 74404043470A
designator L?  value 47 uH
WE-LQS SMD Power Inductor, size 4025, 47 uH; PartNumber: 74404043470A; RatedCurrent: 0.71 A; PublishedDate: Nov. 2016; Publisher: Wurth Elektronik; ComponentLink1Description: Manufacturer; ComponentLink1URL: http://www.we-online.de; ComponentLink2Description: Datasheet; ComponentLink2URL: http://katalog.we-online.de/pbs/datasheet/74404043470A.pdf; Size: 4025
footprint WE-LQS_4025
pins: 1, 2

## 74404043471A
designator L?  value 470 uH
WE-LQS SMD Power Inductor, size 4025, 470 uH; PartNumber: 74404043471A; RatedCurrent: 0.28 A; PublishedDate: Nov. 2016; Publisher: Wurth Elektronik; ComponentLink1Description: Manufacturer; ComponentLink1URL: http://www.we-online.de; ComponentLink2Description: Datasheet; ComponentLink2URL: http://katalog.we-online.de/pbs/datasheet/74404043471A.pdf; Size: 4025
footprint WE-LQS_4025 (SMD Power Inductor, 2-Leads, body 4.0x4.0mm)
pins: 1, 2


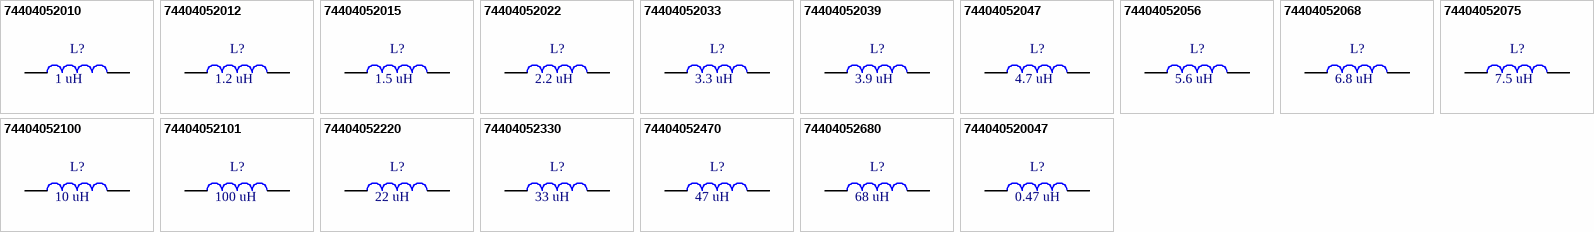
[diagram p7: symbols 74404052010 to 744040520047]

## 74404052010
designator L?  value 1 uH
WE-LQS SMD Power Inductor, size 5020, 1 uH; PartNumber: 74404052010; RatedCurrent: 3.9 A; PublishedDate: Nov. 2016; Publisher: Wurth Elektronik; ComponentLink1Description: Manufacturer; ComponentLink1URL: http://www.we-online.de; ComponentLink2Description: Datasheet; ComponentLink2URL: http://katalog.we-online.de/pbs/datasheet/74404052010.pdf; Size: 5020
footprint WE-LQS_5020
pins: 1, 2

## 74404052012
designator L?  value 1.2 uH
WE-LQS SMD Power Inductor, size 5020, 1.2 uH; PartNumber: 74404052012; RatedCurrent: 3.6 A; PublishedDate: Nov. 2016; Publisher: Wurth Elektronik; ComponentLink1Description: Manufacturer; ComponentLink1URL: http://www.we-online.de; ComponentLink2Description: Datasheet; ComponentLink2URL: http://katalog.we-online.de/pbs/datasheet/74404052012.pdf; Size: 5020
footprint WE-LQS_5020
pins: 1, 2

## 74404052015
designator L?  value 1.5 uH
WE-LQS SMD Power Inductor, size 5020, 1.5 uH; PartNumber: 74404052015; RatedCurrent: 3.3 A; PublishedDate: Nov. 2016; Publisher: Wurth Elektronik; ComponentLink1Description: Manufacturer; ComponentLink1URL: http://www.we-online.de; ComponentLink2Description: Datasheet; ComponentLink2URL: http://katalog.we-online.de/pbs/datasheet/74404052015.pdf; Size: 5020
footprint WE-LQS_5020
pins: 1, 2

## 74404052022
designator L?  value 2.2 uH
WE-LQS SMD Power Inductor, size 5020, 2.2 uH; PartNumber: 74404052022; RatedCurrent: 3 A; PublishedDate: Nov. 2016; Publisher: Wurth Elektronik; ComponentLink1Description: Manufacturer; ComponentLink1URL: http://www.we-online.de; ComponentLink2Description: Datasheet; ComponentLink2URL: http://katalog.we-online.de/pbs/datasheet/74404052022.pdf; Size: 5020
footprint WE-LQS_5020
pins: 1, 2

## 74404052033
designator L?  value 3.3 uH
WE-LQS SMD Power Inductor, size 5020, 3.3 uH; PartNumber: 74404052033; RatedCurrent: 2.6 A; PublishedDate: Nov. 2016; Publisher: Wurth Elektronik; ComponentLink1Description: Manufacturer; ComponentLink1URL: http://www.we-online.de; ComponentLink2Description: Datasheet; ComponentLink2URL: http://katalog.we-online.de/pbs/datasheet/74404052033.pdf; Size: 5020
footprint WE-LQS_5020
pins: 1, 2

## 74404052039
designator L?  value 3.9 uH
WE-LQS SMD Power Inductor, size 5020, 3.9 uH; PartNumber: 74404052039; RatedCurrent: 2.4 A; PublishedDate: Nov. 2016; Publisher: Wurth Elektronik; ComponentLink1Description: Manufacturer; ComponentLink1URL: http://www.we-online.de; ComponentLink2Description: Datasheet; ComponentLink2URL: http://katalog.we-online.de/pbs/datasheet/74404052039.pdf; Size: 5020
footprint WE-LQS_5020
pins: 1, 2

## 74404052047
designator L?  value 4.7 uH
WE-LQS SMD Power Inductor, size 5020, 4.7 uH; PartNumber: 74404052047; RatedCurrent: 2.3 A; PublishedDate: Nov. 2016; Publisher: Wurth Elektronik; ComponentLink1Description: Manufacturer; ComponentLink1URL: http://www.we-online.de; ComponentLink2Description: Datasheet; ComponentLink2URL: http://katalog.we-online.de/pbs/datasheet/74404052047.pdf; Size: 5020
footprint WE-LQS_5020
pins: 1, 2

## 74404052056
designator L?  value 5.6 uH
WE-LQS SMD Power Inductor, size 5020, 5.6 uH; PartNumber: 74404052056; RatedCurrent: 2.1 A; PublishedDate: Nov. 2016; Publisher: Wurth Elektronik; ComponentLink1Description: Manufacturer; ComponentLink1URL: http://www.we-online.de; ComponentLink2Description: Datasheet; ComponentLink2URL: http://katalog.we-online.de/pbs/datasheet/74404052056.pdf; Size: 5020
footprint WE-LQS_5020
pins: 1, 2

## 74404052068
designator L?  value 6.8 uH
WE-LQS SMD Power Inductor, size 5020, 6.8 uH; PartNumber: 74404052068; RatedCurrent: 1.9 A; PublishedDate: Nov. 2016; Publisher: Wurth Elektronik; ComponentLink1Description: Manufacturer; ComponentLink1URL: http://www.we-online.de; ComponentLink2Description: Datasheet; ComponentLink2URL: http://katalog.we-online.de/pbs/datasheet/74404052068.pdf; Size: 5020
footprint WE-LQS_5020
pins: 1, 2

## 74404052075
designator L?  value 7.5 uH
WE-LQS SMD Power Inductor, size 5020, 7.5 uH; PartNumber: 74404052075; RatedCurrent: 1.7 A; PublishedDate: Nov. 2016; Publisher: Wurth Elektronik; ComponentLink1Description: Manufacturer; ComponentLink1URL: http://www.we-online.de; ComponentLink2Description: Datasheet; ComponentLink2URL: http://katalog.we-online.de/pbs/datasheet/74404052075.pdf; Size: 5020
footprint WE-LQS_5020
pins: 1, 2

## 74404052100
designator L?  value 10 uH
WE-LQS SMD Power Inductor, size 5020, 10 uH; PartNumber: 74404052100; RatedCurrent: 1.6 A; PublishedDate: Nov. 2016; Publisher: Wurth Elektronik; ComponentLink1Description: Manufacturer; ComponentLink1URL: http://www.we-online.de; ComponentLink2Description: Datasheet; ComponentLink2URL: http://katalog.we-online.de/pbs/datasheet/74404052100.pdf; Size: 5020
footprint WE-LQS_5020
pins: 1, 2

## 74404052101
designator L?  value 100 uH
WE-LQS SMD Power Inductor, size 5020, 100 uH; PartNumber: 74404052101; RatedCurrent: 0.55 A; PublishedDate: Nov. 2016; Publisher: Wurth Elektronik; ComponentLink1Description: Manufacturer; ComponentLink1URL: http://www.we-online.de; ComponentLink2Description: Datasheet; ComponentLink2URL: http://katalog.we-online.de/pbs/datasheet/74404052101.pdf; Size: 5020
footprint WE-LQS_5020
pins: 1, 2

## 74404052220
designator L?  value 22 uH
WE-LQS SMD Power Inductor, size 5020, 22 uH; PartNumber: 74404052220; RatedCurrent: 1.15 A; PublishedDate: Nov. 2016; Publisher: Wurth Elektronik; ComponentLink1Description: Manufacturer; ComponentLink1URL: http://www.we-online.de; ComponentLink2Description: Datasheet; ComponentLink2URL: http://katalog.we-online.de/pbs/datasheet/74404052220.pdf; Size: 5020
footprint WE-LQS_5020
pins: 1, 2

## 74404052330
designator L?  value 33 uH
WE-LQS SMD Power Inductor, size 5020, 33 uH; PartNumber: 74404052330; RatedCurrent: 0.95 A; PublishedDate: Nov. 2016; Publisher: Wurth Elektronik; ComponentLink1Description: Manufacturer; ComponentLink1URL: http://www.we-online.de; ComponentLink2Description: Datasheet; ComponentLink2URL: http://katalog.we-online.de/pbs/datasheet/74404052330.pdf; Size: 5020
footprint WE-LQS_5020
pins: 1, 2

## 74404052470
designator L?  value 47 uH
WE-LQS SMD Power Inductor, size 5020, 47 uH; PartNumber: 74404052470; RatedCurrent: 0.8 A; PublishedDate: Nov. 2016; Publisher: Wurth Elektronik; ComponentLink1Description: Manufacturer; ComponentLink1URL: http://www.we-online.de; ComponentLink2Description: Datasheet; ComponentLink2URL: http://katalog.we-online.de/pbs/datasheet/74404052470.pdf; Size: 5020
footprint WE-LQS_5020
pins: 1, 2

## 74404052680
designator L?  value 68 uH
WE-LQS SMD Power Inductor, size 5020, 68 uH; PartNumber: 74404052680; RatedCurrent: 0.62 A; PublishedDate: Nov. 2016; Publisher: Wurth Elektronik; ComponentLink1Description: Manufacturer; ComponentLink1URL: http://www.we-online.de; ComponentLink2Description: Datasheet; ComponentLink2URL: http://katalog.we-online.de/pbs/datasheet/74404052680.pdf; Size: 5020
footprint WE-LQS_5020 (SMD Power Inductor, 2-Leads, body 5.0x5.0mm)
pins: 1, 2

## 744040520047
designator L?  value 0.47 uH
WE-LQS SMD Power Inductor, size 5020, 0.47 uH; PartNumber: 744040520047; RatedCurrent: 4.9 A; PublishedDate: Nov. 2016; Publisher: Wurth Elektronik; ComponentLink1Description: Manufacturer; ComponentLink1URL: http://www.we-online.de; ComponentLink2Description: Datasheet; ComponentLink2URL: http://katalog.we-online.de/pbs/datasheet/744040520047.pdf; Size: 5020
footprint WE-LQS_5020
pins: 1, 2


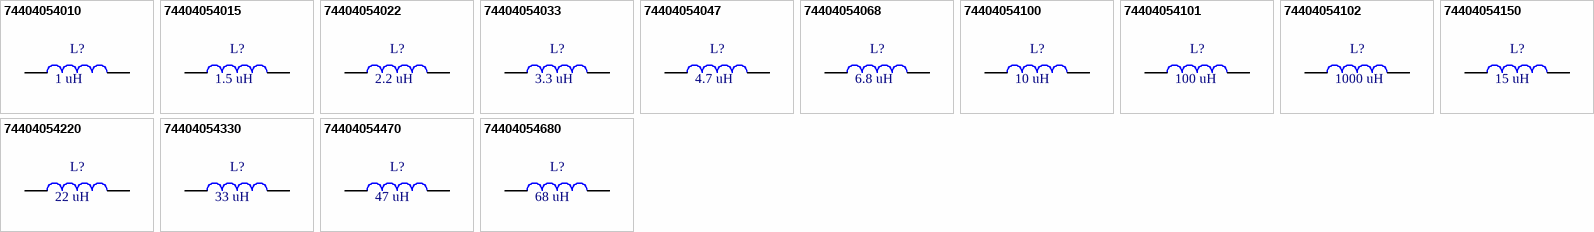
[diagram p8: symbols 74404054010 to 74404054680]

## 74404054010
designator L?  value 1 uH
WE-LQS SMD Power Inductor, size 5040, 1 uH; PartNumber: 74404054010; RatedCurrent: 4.9 A; PublishedDate: Nov. 2016; Publisher: Wurth Elektronik; ComponentLink1Description: Manufacturer; ComponentLink1URL: http://www.we-online.de; ComponentLink2Description: Datasheet; ComponentLink2URL: http://katalog.we-online.de/pbs/datasheet/74404054010.pdf; Size: 5040
footprint WE-LQS_5040
pins: 1, 2

## 74404054015
designator L?  value 1.5 uH
WE-LQS SMD Power Inductor, size 5040, 1.5 uH; PartNumber: 74404054015; RatedCurrent: 4.3 A; PublishedDate: Nov. 2016; Publisher: Wurth Elektronik; ComponentLink1Description: Manufacturer; ComponentLink1URL: http://www.we-online.de; ComponentLink2Description: Datasheet; ComponentLink2URL: http://katalog.we-online.de/pbs/datasheet/74404054015.pdf; Size: 5040
footprint WE-LQS_5040
pins: 1, 2

## 74404054022
designator L?  value 2.2 uH
WE-LQS SMD Power Inductor, size 5040, 2.2 uH; PartNumber: 74404054022; RatedCurrent: 3.8 A; PublishedDate: Nov. 2016; Publisher: Wurth Elektronik; ComponentLink1Description: Manufacturer; ComponentLink1URL: http://www.we-online.de; ComponentLink2Description: Datasheet; ComponentLink2URL: http://katalog.we-online.de/pbs/datasheet/74404054022.pdf; Size: 5040
footprint WE-LQS_5040
pins: 1, 2

## 74404054033
designator L?  value 3.3 uH
WE-LQS SMD Power Inductor, size 5040, 3.3 uH; PartNumber: 74404054033; RatedCurrent: 3.4 A; PublishedDate: Nov. 2016; Publisher: Wurth Elektronik; ComponentLink1Description: Manufacturer; ComponentLink1URL: http://www.we-online.de; ComponentLink2Description: Datasheet; ComponentLink2URL: http://katalog.we-online.de/pbs/datasheet/74404054033.pdf; Size: 5040
footprint WE-LQS_5040
pins: 1, 2

## 74404054047
designator L?  value 4.7 uH
WE-LQS SMD Power Inductor, size 5040, 4.7 uH; PartNumber: 74404054047; RatedCurrent: 3 A; PublishedDate: Nov. 2016; Publisher: Wurth Elektronik; ComponentLink1Description: Manufacturer; ComponentLink1URL: http://www.we-online.de; ComponentLink2Description: Datasheet; ComponentLink2URL: http://katalog.we-online.de/pbs/datasheet/74404054047.pdf; Size: 5040
footprint WE-LQS_5040
pins: 1, 2

## 74404054068
designator L?  value 6.8 uH
WE-LQS SMD Power Inductor, size 5040, 6.8 uH; PartNumber: 74404054068; RatedCurrent: 2.5 A; PublishedDate: Nov. 2016; Publisher: Wurth Elektronik; ComponentLink1Description: Manufacturer; ComponentLink1URL: http://www.we-online.de; ComponentLink2Description: Datasheet; ComponentLink2URL: http://katalog.we-online.de/pbs/datasheet/74404054068.pdf; Size: 5040
footprint WE-LQS_5040
pins: 1, 2

## 74404054100
designator L?  value 10 uH
WE-LQS SMD Power Inductor, size 5040, 10 uH; PartNumber: 74404054100; RatedCurrent: 2.1 A; PublishedDate: Nov. 2016; Publisher: Wurth Elektronik; ComponentLink1Description: Manufacturer; ComponentLink1URL: http://www.we-online.de; ComponentLink2Description: Datasheet; ComponentLink2URL: http://katalog.we-online.de/pbs/datasheet/74404054100.pdf; Size: 5040
footprint WE-LQS_5040
pins: 1, 2

## 74404054101
designator L?  value 100 uH
WE-LQS SMD Power Inductor, size 5040, 100 uH; PartNumber: 74404054101; RatedCurrent: 0.7 A; PublishedDate: Nov. 2016; Publisher: Wurth Elektronik; ComponentLink1Description: Manufacturer; ComponentLink1URL: http://www.we-online.de; ComponentLink2Description: Datasheet; ComponentLink2URL: http://katalog.we-online.de/pbs/datasheet/74404054101.pdf; Size: 5040
footprint WE-LQS_5040
pins: 1, 2